# Altium schematic symbol library TB67H451FNG,EL.SchLib: 1 symbol
Pins are listed as number, name and electrical type; pins without a type are passive.

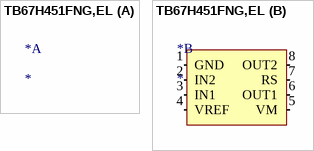
[diagram p0: symbol TB67H451FNG,EL]

## TB67H451FNG,EL
designator *
footprint SOIC127P600X170_HS-9N (SOIC, 8-Leads, Body 4.90x3.90mm, Pitch 1.27mm, Thermal Pad 3.20x2.39mm, IPC Medium Density)
part B pins: 1 GND (in), 2 IN2 (in), 3 IN1 (in), 4 VREF (in), 5 VM (in), 6 OUT1 (in), 7 RS (in), 8 OUT2 (in)